# EAGLE library part SP2996BEN-L (library Sipex_By_element14_Batch_1)
2A Bus Termination Regulator
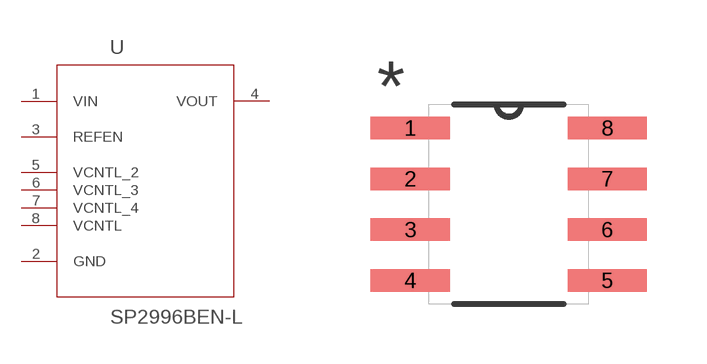
[diagram p1: symbol with the pads of SOIC127P600X175-8N; footprint SOIC127P600X175-8N]

Designator prefix U

## SP2996BEN-L (MPN: SP2996BEN-L; OC_FARNELL: 1829394; OC_NEWARK: 84R4423; PACKAGE: SOIC-8; SUPPLIER: Sipex Corporation)  [SOIC127P600X175-8N]
1  VIN  pwr
2  GND  pas
3  REFEN  in
4  VOUT  out
5  VCNTL_2  in
6  VCNTL_3  in
7  VCNTL_4  in
8  VCNTL  in

## Footprint SOIC127P600X175-8N (pad centres in mm)
smd 1.981 x 0.559: 1 -2.464,1.905; 2 -2.464,0.635; 3 -2.464,-0.635; 4 -2.464,-1.905; 5 2.464,-1.905; 6 2.464,-0.635; 7 2.464,0.635; 8 2.464,1.905